# Altium footprint library 28SSOP.PcbLib: 1 footprints
Each footprint in its own frame and in the unit in brackets; x right, y up, seen from the top. Pads: shape width x height; smd on the part's side, far side on the other; paste and mask are expansions set on the pad; w line width, h text height; cw(c..) or ccw(c..) is an arc to the next point about the centre after c.
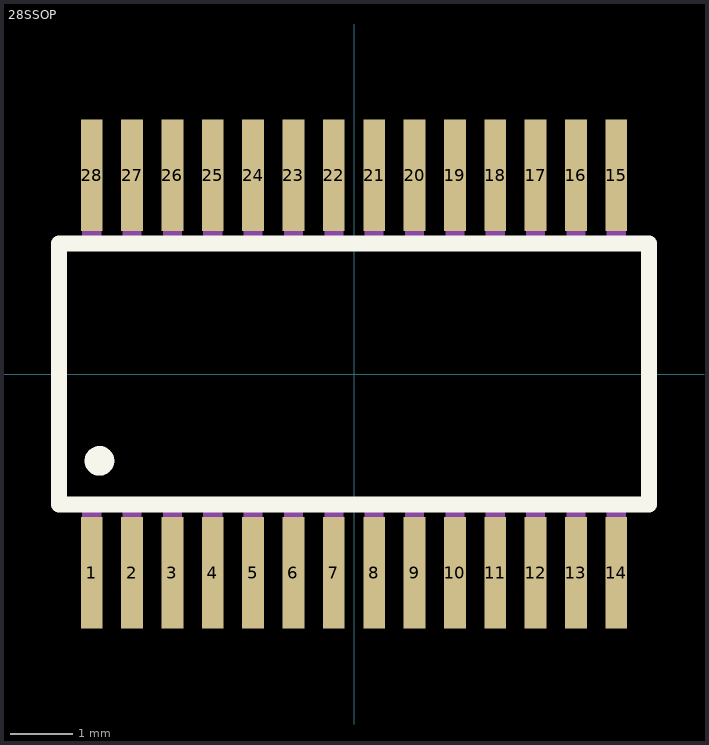
[diagram p0: the footprint, top view; thin cyan lines are the x and y axes]

## 28SSOP [mm]
pads (28):
  rect 0.35x1.8 smd: 1(-4.225,-3.2) 2(-3.575,-3.2) 3(-2.925,-3.2) 4(-2.275,-3.2) 5(-1.625,-3.2) 6(-0.975,-3.2) 7(-0.325,-3.2) 8(0.325,-3.2) 9(0.975,-3.2) 10(1.625,-3.2) 11(2.275,-3.2) 12(2.925,-3.2) 13(3.575,-3.2) 14(4.225,-3.2) 15(4.225,3.2) 16(3.575,3.2) 17(2.925,3.2) 18(2.275,3.2) 19(1.625,3.2) 20(0.975,3.2) 21(0.325,3.2) 22(-0.325,3.2) 23(-0.975,3.2) 24(-1.625,3.2) 25(-2.275,3.2) 26(-2.925,3.2) 27(-3.575,3.2) 28(-4.225,3.2)
Top Overlay:
  circle w0.254: c-4.1,-1.4 r0.112
  lines w0.254: -4.75,-2.1 4.75,-2.1 4.75,2.1 -4.75,2.1 -4.75,-2.1
Mechanical 13:
  region: -4.075,-3.25 -4.375,-3.25 -4.375,-2.2 -4.075,-2.2
  region: -3.425,-3.25 -3.725,-3.25 -3.725,-2.2 -3.425,-2.2
  region: -2.775,-3.25 -3.075,-3.25 -3.075,-2.2 -2.775,-2.2
  region: -2.125,-3.25 -2.425,-3.25 -2.425,-2.2 -2.125,-2.2
  region: -1.475,-3.25 -1.775,-3.25 -1.775,-2.2 -1.475,-2.2
  region: -0.825,-3.25 -1.125,-3.25 -1.125,-2.2 -0.825,-2.2
  region: -0.175,-3.25 -0.475,-3.25 -0.475,-2.2 -0.175,-2.2
  region: 0.475,-3.25 0.175,-3.25 0.175,-2.2 0.475,-2.2
  region: 1.125,-3.25 0.825,-3.25 0.825,-2.2 1.125,-2.2
  region: 1.775,-3.25 1.475,-3.25 1.475,-2.2 1.775,-2.2
  region: 2.425,-3.25 2.125,-3.25 2.125,-2.2 2.425,-2.2
  region: 3.075,-3.25 2.775,-3.25 2.775,-2.2 3.075,-2.2
  region: 3.725,-3.25 3.425,-3.25 3.425,-2.2 3.725,-2.2
  region: 4.375,-3.25 4.075,-3.25 4.075,-2.2 4.375,-2.2
  region: 4.375,2.2 4.075,2.2 4.075,3.25 4.375,3.25
  region: 3.725,2.2 3.425,2.2 3.425,3.25 3.725,3.25
  region: 3.075,2.2 2.775,2.2 2.775,3.25 3.075,3.25
  region: 2.425,2.2 2.125,2.2 2.125,3.25 2.425,3.25
  region: 1.775,2.2 1.475,2.2 1.475,3.25 1.775,3.25
  region: 1.125,2.2 0.825,2.2 0.825,3.25 1.125,3.25
  region: 0.475,2.2 0.175,2.2 0.175,3.25 0.475,3.25
  region: -0.175,2.2 -0.475,2.2 -0.475,3.25 -0.175,3.25
  region: -0.825,2.2 -1.125,2.2 -1.125,3.25 -0.825,3.25
  region: -1.475,2.2 -1.775,2.2 -1.775,3.25 -1.475,3.25
  region: -2.125,2.2 -2.425,2.2 -2.425,3.25 -2.125,3.25
  region: -2.775,2.2 -3.075,2.2 -3.075,3.25 -2.775,3.25
  region: -3.425,2.2 -3.725,2.2 -3.725,3.25 -3.425,3.25
  region: -4.075,2.2 -4.375,2.2 -4.375,3.25 -4.075,3.25